# EAGLE library part NX1-53 (library impellimax-drivers)
Please contact factory for your specific package and pinout needs. www.impellimax.com 603-886-9569
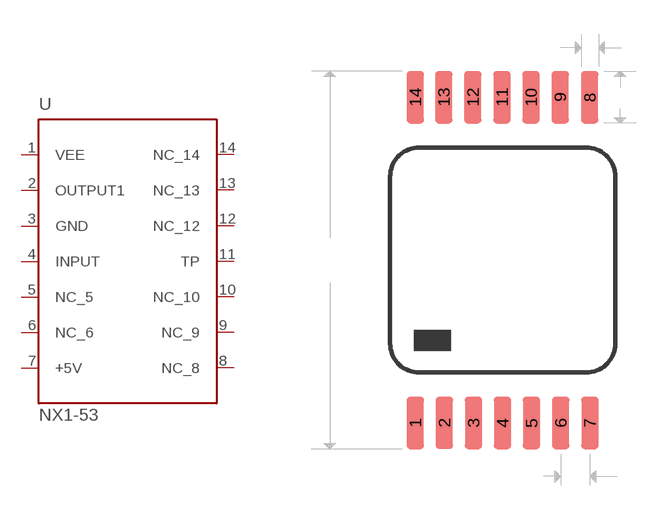
[diagram p0: symbol with the pads of 7400_C111; footprint 7400_C111]

Designator prefix U

## NX1-53  [7400_C111]
1  VEE  in
2  OUTPUT1  in
3  GND  pas
4  INPUT  in
5  NC_5  in
6  NC_6  in
7  +5V  pas
8  NC_8  in
9  NC_9  in
10  NC_10  in
11  TP  in
12  NC_12  in
13  NC_13  in
14  NC_14  in

## Footprint 7400_C111 (pad centres in mm)
.395 square package actual lead to lead length .600 +/- .020 foot length .040 nom, land pattern .090 lead width .016, land pattern width .030
smd 0.762 x 2.286: 1 -3.811,-7.114; 2 -2.541,-7.11; 3 -1.269,-7.112; 4 0.001,-7.115; 5 1.267,-7.112; 6 2.538,-7.115; 7 3.809,-7.112; 8 3.808,7.11; 9 2.513,7.11; 10 1.243,7.11; 11 -0.025,7.11; 12 -1.297,7.11; 13 -2.567,7.11; 14 -3.812,7.11